# Altium footprint library Connect.PcbLib: 69 footprints (part 2 of 5)
Each footprint in its own frame and in the unit in brackets; x right, y up, seen from the top. Pads: shape width x height; smd on the part's side, far side on the other; paste and mask are expansions set on the pad; w line width, h text height; cw(c..) or ccw(c..) is an arc to the next point about the centre after c.
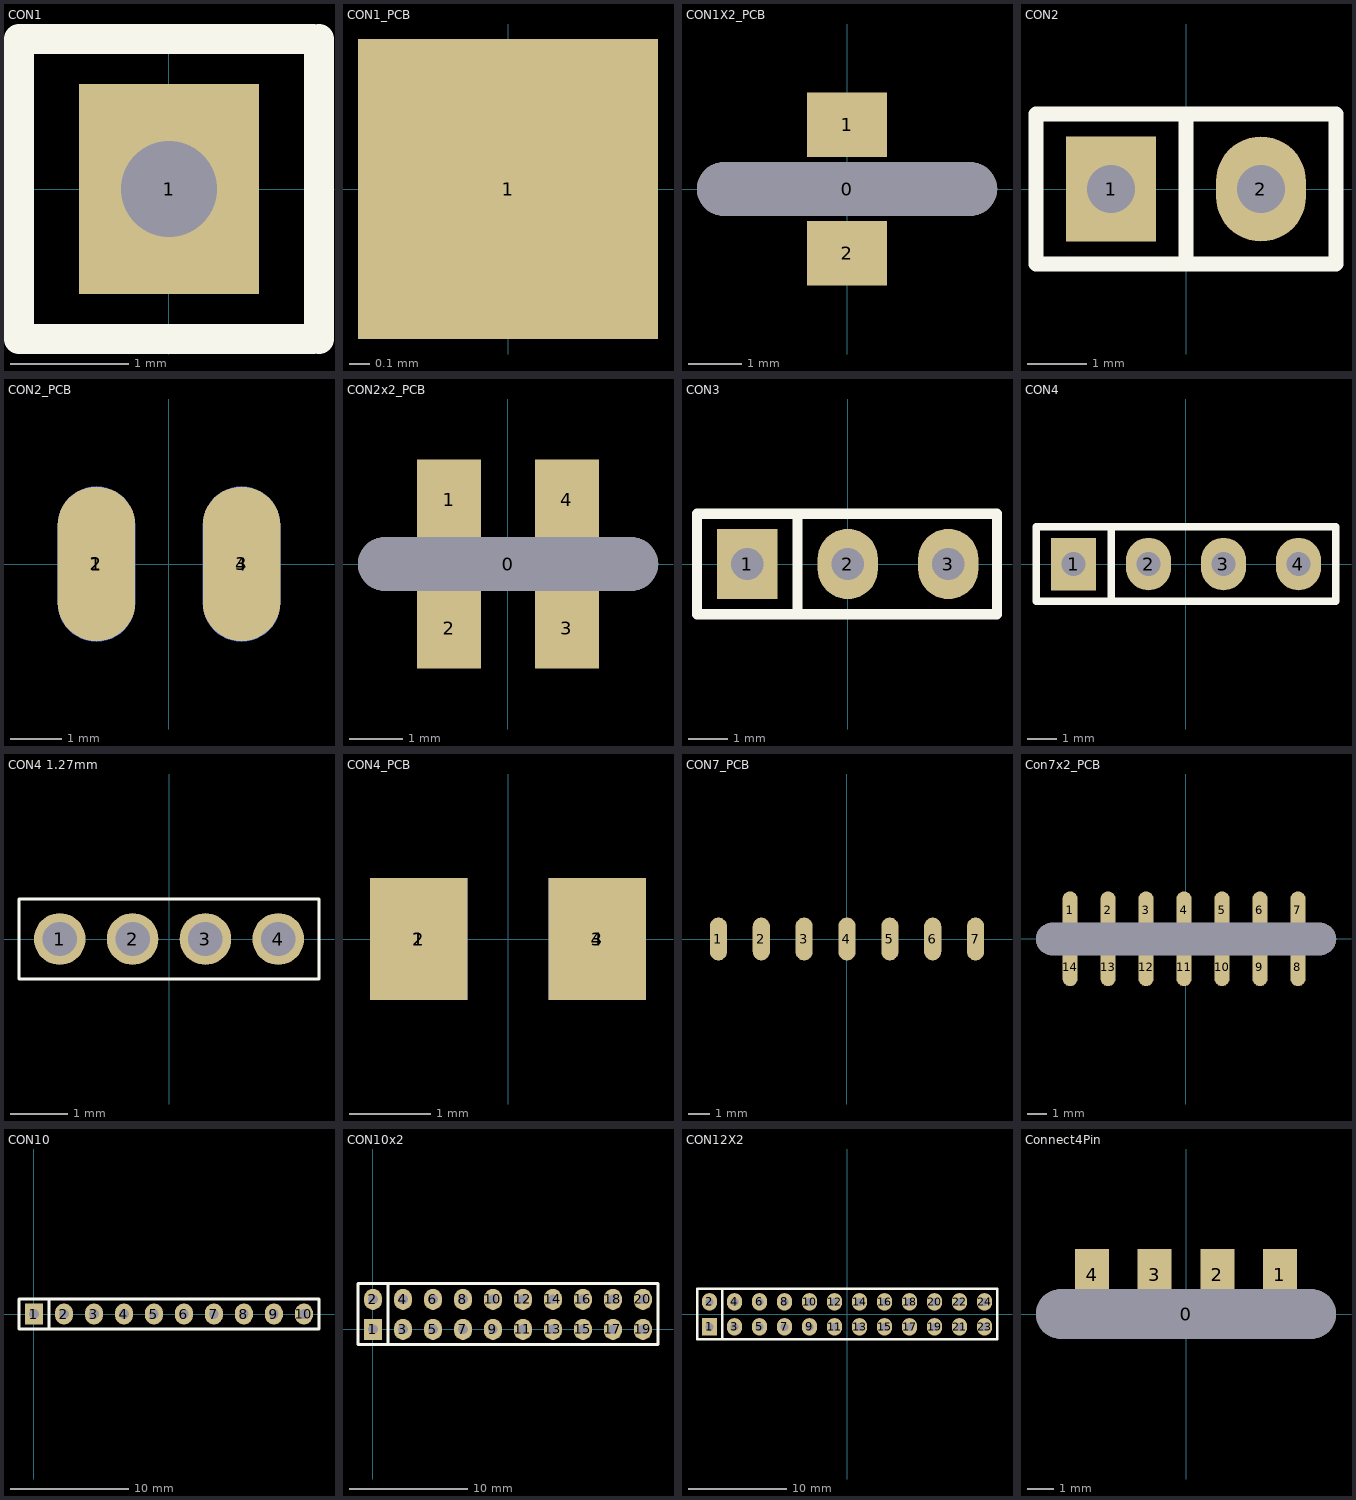
[diagram p1: the footprints below, top view; thin cyan lines are the x and y axes]

## CON1 [mil]
pads (1):
  rect 60x70 hole 32: 1(0,0)
Top Overlay:
  lines w10: 48.03,-50 -50,-50 -50,50 48.03,50 ; 50,-50 50,50
3D body: height 295.28, standoff 98.43, extent -11.76,-11.79 11.77,11.79
3D body: height 98.43, standoff 0, extent -50.79,-49.51 51.97,50.29
3D body: height 51.18, standoff 0, extent -11.76,-11.79 11.77,11.79

## CON1_PCB [mm]
pads (1):
  rect 1.5x1.5 smd: 1(0,0)

## CON1X2_PCB [mm]
pads (3):
  oval 5.6x1 hole 1 slot 5.6 at 0 deg unplated: 0(0,0)
  rect 1.5x1.2 smd: 1(0,1.2) 2(0,-1.2)

## CON2 [mil]
pads (2):
  rect 60x70 hole 32: 1(-50,0)
  oval 60x70 hole 32: 2(50,0)
Top Overlay:
  lines w10: 0,-50 0,50 ; -100,-50 -100,50 100,50 100,-50 -100,-50
3D body: height 295.28, standoff 98.43, extent -61.76,-11.79 -38.23,11.79
3D body: height 295.28, standoff 98.43, extent 38.24,-11.78 61.77,11.79
3D body: height 98.43, standoff 0, extent -100.79,-49.51 100,50.29
3D body: height 51.18, standoff 0, extent 38.24,-11.79 61.77,11.79
3D body: height 51.18, standoff 0, extent -61.76,-11.79 -38.23,11.79

## CON2_PCB [mm]
pads (4):
  oval 1.5x3 smd far side: 1(-1.405,-0.002) 4(1.405,-0.002)
  oval 1.5x3 smd: 2(-1.405,0.002) 3(1.405,0.002)

## CON2x2_PCB [mm]
pads (5):
  oval 5.6x1 hole 1 slot 5.6 at 0 deg unplated: 0(0,0)
  rect 1.2x1.5 smd: 1(-1.1,1.2) 2(-1.1,-1.2) 3(1.1,-1.2) 4(1.1,1.2)

## CON3 [mil]
pads (3):
  rect 60x70 hole 32: 1(-100,0)
  oval 60x70 hole 32: 2(0,0) 3(100,0)
Top Overlay:
  lines w10: -50,-50 -50,50 ; -150,-50 -150,50 148.43,50 148.43,-50 -150,-50
3D body: height 295.28, standoff 98.43, extent -111.76,-11.79 -88.23,11.79
3D body: height 295.28, standoff 98.43, extent -11.76,-11.78 11.77,11.79
3D body: height 295.28, standoff 98.43, extent 88.24,-11.79 111.77,11.79
3D body: height 98.43, standoff 0, extent -150.79,-49.51 146.06,50.29
3D body: height 295.28, standoff 98.43, extent 88.24,-11.79 111.77,11.79
3D body: height 51.18, standoff 0, extent 88.24,-11.79 111.77,11.79
3D body: height 51.18, standoff 0, extent -11.76,-11.79 11.77,11.79
3D body: height 51.18, standoff 0, extent -111.76,-11.79 -88.23,11.79

## CON4 [mil]
pads (4):
  rect 60x70 hole 32: 1(-150,0)
  oval 60x70 hole 32: 2(-50,0) 3(50,0) 4(150,0)
Top Overlay:
  lines w10: -100,-50 -100,50 ; -200,-50 -200,50 200,50 200,-50 -200,-50
3D body: height 295.28, standoff 98.43, extent -161.76,-11.79 -138.23,11.79
3D body: height 295.28, standoff 98.43, extent -61.76,-11.78 -38.23,11.79
3D body: height 295.28, standoff 98.43, extent 38.24,-11.79 61.77,11.79
3D body: height 51.18, standoff 0, extent 138.24,-11.79 161.77,11.79
3D body: height 98.43, standoff 0, extent -200.79,-49.51 199.41,50.29
3D body: height 295.28, standoff 98.43, extent 138.24,-11.79 161.77,11.79
3D body: height 295.28, standoff 98.43, extent 38.24,-11.79 61.77,11.79
3D body: height 51.18, standoff 0, extent 38.24,-11.79 61.77,11.79
3D body: height 51.18, standoff 0, extent -61.76,-11.79 -38.23,11.79
3D body: height 51.18, standoff 0, extent -161.76,-11.79 -138.23,11.79

## CON4 1.27mm [mm]
pads (4):
  round 0.9 hole 0.6: 1(-1.905,0) 2(-0.635,0) 3(0.635,0) 4(1.905,0)
Top Overlay:
  lines w0.051: -2.615,-0.7 -2.615,0.7 2.615,0.7 2.615,-0.7 -2.615,-0.7

## CON4_PCB [mm]
pads (4):
  rect 1.2x1.5 smd far side: 1(-1.1,0) 4(1.1,0)
  rect 1.2x1.5 smd: 2(-1.1,0) 3(1.1,0)

## CON7_PCB [mm]
pads (7):
  oval 0.8x2 smd: 1(-6,0) 2(-4,0) 3(-2,0) 4(0,0) 5(2,0) 6(4,0) 7(6,0)

## Con7x2_PCB [mm]
pads (15):
  oval 0.8x2 smd: 1(-6.1,1.5) 2(-4.1,1.5) 3(-2.1,1.5) 4(-0.1,1.5) 5(1.9,1.5) 6(3.9,1.5) 7(5.9,1.5) 8(5.9,-1.5) 9(3.9,-1.5) 10(1.9,-1.5) 11(-0.1,-1.5) 12(-2.1,-1.5) 13(-4.1,-1.5) 14(-6.1,-1.5)
  oval 15.8x1.7 hole 1.7 slot 15.8 at 0 deg unplated: ""(0.003,-0.012)

## CON10 [mil]
pads (10):
  rect 60x70 hole 32: 1(0,0)
  oval 60x70 hole 32: 2(100,0) 3(200,0) 4(300,0) 5(400,0) 6(500,0) 7(600,0) 8(700,0) 9(800,0) 10(900,0)
Top Overlay:
  lines w10: 50,-50 50,50 ; -50,-50 950.39,-50 950.39,50 -50,50 -50,-50
3D body: height 51.18, standoff 0, extent 888.24,-11.79 911.77,11.79
3D body: height 295.28, standoff 98.43, extent 888.24,-11.79 911.77,11.79
3D body: height 51.18, standoff 0, extent 788.24,-11.79 811.77,11.79
3D body: height 295.28, standoff 98.43, extent 788.24,-11.79 811.77,11.79
3D body: height 51.18, standoff 0, extent 688.24,-11.79 711.77,11.79
3D body: height 295.28, standoff 98.43, extent 688.24,-11.79 711.77,11.79
3D body: height 51.18, standoff 0, extent 588.24,-11.79 611.77,11.79
3D body: height 295.28, standoff 98.43, extent 588.24,-11.79 611.77,11.79
3D body: height 51.18, standoff 0, extent 488.24,-11.79 511.77,11.79
3D body: height 295.28, standoff 98.43, extent 488.24,-11.79 511.77,11.79
3D body: height 51.18, standoff 0, extent 388.24,-11.79 411.77,11.79
3D body: height 295.28, standoff 98.43, extent 388.24,-11.79 411.77,11.79
3D body: height 51.18, standoff 0, extent -11.76,-11.79 11.77,11.79
3D body: height 51.18, standoff 0, extent 88.24,-11.79 111.77,11.79
3D body: height 51.18, standoff 0, extent 188.24,-11.79 211.77,11.79
3D body: height 295.28, standoff 98.43, extent 188.24,-11.79 211.77,11.79
3D body: height 295.28, standoff 98.43, extent 288.24,-11.79 311.77,11.79
3D body: height 98.43, standoff 0, extent -50.79,-49.51 949.61,50.29
3D body: height 51.18, standoff 0, extent 288.24,-11.79 311.77,11.79
3D body: height 295.28, standoff 98.43, extent 188.24,-11.79 211.77,11.79
3D body: height 295.28, standoff 98.43, extent 88.24,-11.78 111.77,11.79
3D body: height 295.28, standoff 98.43, extent -11.76,-11.79 11.77,11.79

## CON10x2 [mil]
pads (20):
  rect 60x70 hole 32: 1(0,0)
  oval 60x70 hole 32: 2(0,100) 3(100,0) 4(100,100) 5(200,0) 6(200,100) 7(300,0) 8(300,100) 9(400,0) 10(400,100) 11(500,0) 12(500,100) 13(600,0) 14(600,100) 15(700,0) 16(700,100) 17(800,0) 18(800,100) 19(900,0) 20(900,100)
Top Overlay:
  lines w10: 50,-50 50,152.76 ; -50,-50 -50,152.76 950.39,152.76 950.39,-50 -50,-50
3D body: height 51.18, standoff 0, extent 888.24,-11.79 911.77,11.79
3D body: height 295.28, standoff 98.43, extent 888.24,-11.79 911.77,11.79
3D body: height 51.18, standoff 0, extent 888.24,88.21 911.77,111.79
3D body: height 295.28, standoff 98.43, extent 888.24,88.21 911.77,111.79
3D body: height 51.18, standoff 0, extent 788.24,88.21 811.77,111.79
3D body: height 295.28, standoff 98.43, extent 788.24,88.21 811.77,111.79
3D body: height 51.18, standoff 0, extent 788.24,-11.79 811.77,11.79
3D body: height 295.28, standoff 98.43, extent 788.24,-11.79 811.77,11.79
3D body: height 51.18, standoff 0, extent 688.24,-11.79 711.77,11.79
3D body: height 295.28, standoff 98.43, extent 688.24,-11.79 711.77,11.79
3D body: height 51.18, standoff 0, extent 688.24,88.21 711.77,111.79
3D body: height 295.28, standoff 98.43, extent 688.24,88.21 711.77,111.79
3D body: height 51.18, standoff 0, extent 588.24,88.21 611.77,111.79
3D body: height 295.28, standoff 98.43, extent 588.24,88.21 611.77,111.79
3D body: height 51.18, standoff 0, extent 588.24,-11.79 611.77,11.79
3D body: height 295.28, standoff 98.43, extent 588.24,-11.79 611.77,11.79
3D body: height 51.18, standoff 0, extent 488.24,88.21 511.77,111.79
3D body: height 295.28, standoff 98.43, extent 488.24,88.21 511.77,111.79
3D body: height 51.18, standoff 0, extent 488.24,-11.79 511.77,11.79
3D body: height 295.28, standoff 98.43, extent 488.24,-11.79 511.77,11.79
3D body: height 295.28, standoff 98.43, extent -11.76,-11.79 11.77,11.79
3D body: height 295.28, standoff 98.43, extent -11.76,88.22 11.77,111.79
3D body: height 295.28, standoff 98.43, extent 88.24,-11.79 111.77,11.79
3D body: height 51.18, standoff 0, extent 88.24,88.21 111.77,111.79
3D body: height 98.43, standoff 0, extent -50.39,-49.61 950,153.54
3D body: height 295.28, standoff 98.43, extent 88.24,88.21 111.77,111.79
3D body: height 295.28, standoff 98.43, extent 88.24,-11.79 111.77,11.79
3D body: height 51.18, standoff 0, extent 88.24,-11.79 111.77,11.79
3D body: height 51.18, standoff 0, extent -11.76,88.21 11.77,111.79
3D body: height 51.18, standoff 0, extent -11.76,-11.79 11.77,11.79
3D body: height 295.28, standoff 98.43, extent 188.24,-11.79 211.77,11.79
3D body: height 51.18, standoff 0, extent 188.24,-11.79 211.77,11.79
3D body: height 295.28, standoff 98.43, extent 188.24,88.21 211.77,111.79
3D body: height 51.18, standoff 0, extent 188.24,88.21 211.77,111.79
3D body: height 295.28, standoff 98.43, extent 288.24,-11.79 311.77,11.79
3D body: height 51.18, standoff 0, extent 288.24,-11.79 311.77,11.79
3D body: height 295.28, standoff 98.43, extent 288.24,88.21 311.77,111.79
3D body: height 51.18, standoff 0, extent 288.24,88.21 311.77,111.79
3D body: height 295.28, standoff 98.43, extent 388.24,-11.79 411.77,11.79
3D body: height 51.18, standoff 0, extent 388.24,-11.79 411.77,11.79
3D body: height 295.28, standoff 98.43, extent 388.24,88.21 411.77,111.79
3D body: height 51.18, standoff 0, extent 388.24,88.21 411.77,111.79

## CON12X2 [mil]
pads (24):
  rect 60x70 hole 32: 1(-550,-50)
  oval 60x70 hole 32: 2(-550,50) 3(-450,-50) 4(-450,50) 5(-350,-50) 6(-350,50) 7(-250,-50) 8(-250,50) 9(-150,-50) 10(-150,50) 11(-50,-50) 12(-50,50) 13(50,-50) 14(50,50) 15(150,-50) 16(150,50) 17(250,-50) 18(250,50) 19(350,-50) 20(350,50) 21(450,-50) 22(450,50) 23(550,-50) 24(550,50)
Top Overlay:
  lines w10: -500,-100 -500,102.76 ; 598.43,-100 -600,-100 -600,102.76 600,102.76 600,-100
3D body: height 295.28, standoff 98.43, extent 438.24,-61.79 461.77,-38.21
3D body: height 51.18, standoff 0, extent 438.24,-61.79 461.77,-38.21
3D body: height 295.28, standoff 98.43, extent 538.24,-61.79 561.77,-38.21
3D body: height 51.18, standoff 0, extent 538.24,-61.79 561.77,-38.21
3D body: height 295.28, standoff 98.43, extent 538.24,38.21 561.77,61.79
3D body: height 51.18, standoff 0, extent 538.24,38.21 561.77,61.79
3D body: height 295.28, standoff 98.43, extent 438.24,38.21 461.77,61.79
3D body: height 51.18, standoff 0, extent 438.24,38.21 461.77,61.79
3D body: height 51.18, standoff 0, extent 338.24,-61.79 361.77,-38.21
3D body: height 295.28, standoff 98.43, extent 338.24,-61.79 361.77,-38.21
3D body: height 51.18, standoff 0, extent 338.24,38.21 361.77,61.79
3D body: height 295.28, standoff 98.43, extent 338.24,38.21 361.77,61.79
3D body: height 51.18, standoff 0, extent 238.24,38.21 261.77,61.79
3D body: height 295.28, standoff 98.43, extent 238.24,38.21 261.77,61.79
3D body: height 51.18, standoff 0, extent 238.24,-61.79 261.77,-38.21
3D body: height 295.28, standoff 98.43, extent 238.24,-61.79 261.77,-38.21
3D body: height 51.18, standoff 0, extent 138.24,-61.79 161.77,-38.21
3D body: height 295.28, standoff 98.43, extent 138.24,-61.79 161.77,-38.21
3D body: height 51.18, standoff 0, extent 138.24,38.21 161.77,61.79
3D body: height 295.28, standoff 98.43, extent 138.24,38.21 161.77,61.79
3D body: height 51.18, standoff 0, extent 38.24,38.21 61.77,61.79
3D body: height 295.28, standoff 98.43, extent 38.24,38.21 61.77,61.79
3D body: height 51.18, standoff 0, extent 38.24,-61.79 61.77,-38.21
3D body: height 295.28, standoff 98.43, extent 38.24,-61.79 61.77,-38.21
3D body: height 51.18, standoff 0, extent -61.76,38.21 -38.23,61.79
3D body: height 295.28, standoff 98.43, extent -61.76,38.21 -38.23,61.79
3D body: height 51.18, standoff 0, extent -61.76,-61.79 -38.23,-38.21
3D body: height 295.28, standoff 98.43, extent -61.76,-61.79 -38.23,-38.21
3D body: height 295.28, standoff 98.43, extent -561.76,-61.79 -538.23,-38.21
3D body: height 295.28, standoff 98.43, extent -561.76,38.22 -538.23,61.79
3D body: height 295.28, standoff 98.43, extent -461.76,-61.79 -438.23,-38.21
3D body: height 51.18, standoff 0, extent -461.76,38.21 -438.23,61.79
3D body: height 98.43, standoff 0, extent -600.39,-99.61 600,103.54
3D body: height 295.28, standoff 98.43, extent -461.76,38.21 -438.23,61.79
3D body: height 295.28, standoff 98.43, extent -461.76,-61.79 -438.23,-38.21
3D body: height 51.18, standoff 0, extent -461.76,-61.79 -438.23,-38.21
3D body: height 51.18, standoff 0, extent -561.76,38.21 -538.23,61.79
3D body: height 51.18, standoff 0, extent -561.76,-61.79 -538.23,-38.21
3D body: height 295.28, standoff 98.43, extent -361.76,-61.79 -338.23,-38.21
3D body: height 51.18, standoff 0, extent -361.76,-61.79 -338.23,-38.21
3D body: height 295.28, standoff 98.43, extent -361.76,38.21 -338.23,61.79
3D body: height 51.18, standoff 0, extent -361.76,38.21 -338.23,61.79
3D body: height 295.28, standoff 98.43, extent -261.76,-61.79 -238.23,-38.21
3D body: height 51.18, standoff 0, extent -261.76,-61.79 -238.23,-38.21
3D body: height 295.28, standoff 98.43, extent -261.76,38.21 -238.23,61.79
3D body: height 51.18, standoff 0, extent -261.76,38.21 -238.23,61.79
3D body: height 295.28, standoff 98.43, extent -161.76,-61.79 -138.23,-38.21
3D body: height 51.18, standoff 0, extent -161.76,-61.79 -138.23,-38.21
3D body: height 295.28, standoff 98.43, extent -161.76,38.21 -138.23,61.79
3D body: height 51.18, standoff 0, extent -161.76,38.21 -138.23,61.79

## Connect4Pin [mm]
pads (5):
  oval 11.5x1.9 hole 1.9 slot 11.5 at 0 deg: 0(0,0)
  rect 1.3x2 smd: 1(3.6,1.5) 2(1.2,1.5) 3(-1.2,1.5) 4(-3.6,1.5)